# Altium footprint library Drosel.PcbLib: 92 footprints (part 4 of 6)
Each footprint in its own frame and in the unit in brackets; x right, y up, seen from the top. Pads: shape width x height; smd on the part's side, far side on the other; paste and mask are expansions set on the pad; w line width, h text height; cw(c..) or ccw(c..) is an arc to the next point about the centre after c.
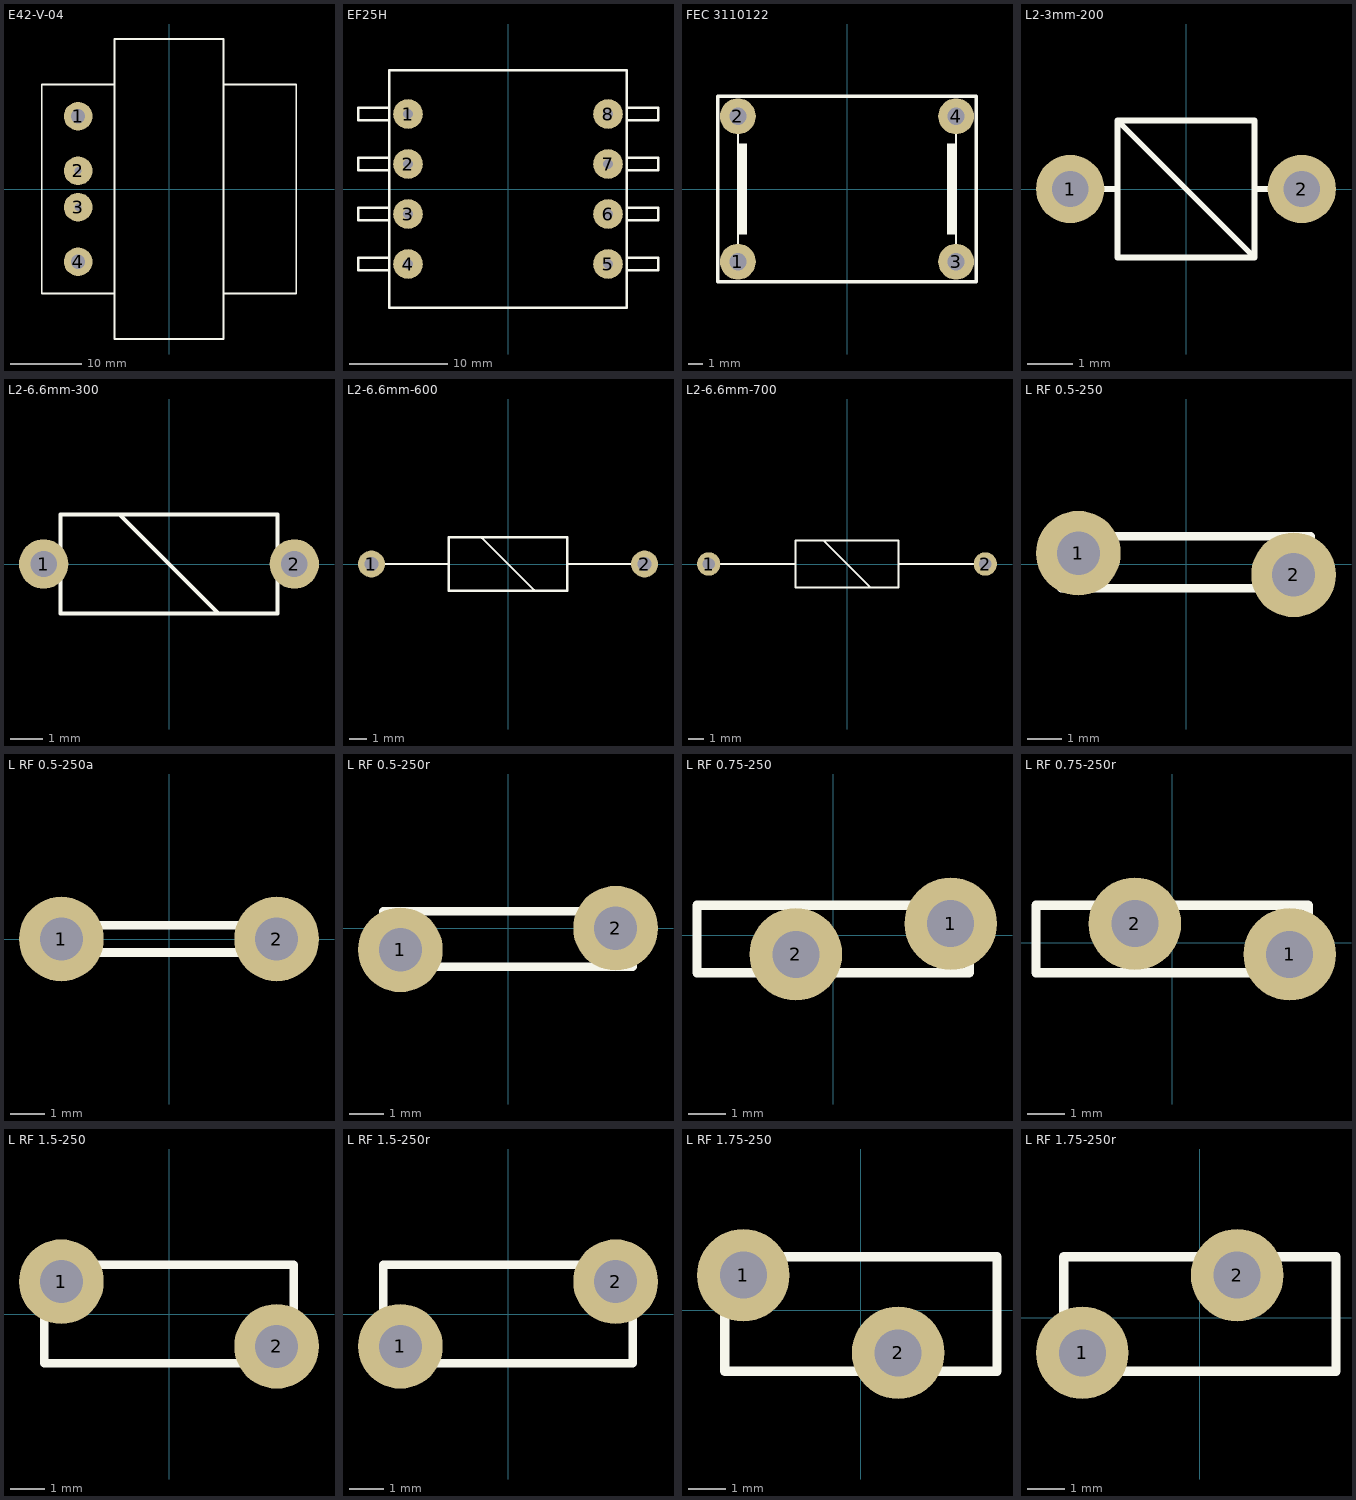
[diagram p3: the footprints below, top view; thin cyan lines are the x and y axes]

## E42-V-04 [mm]
pads (4):
  round 4 hole 2: 1(-12.7,10.16) 4(-12.7,-10.16)
  round 4 hole 1: 2(-12.7,2.54) 3(-12.7,-2.54)
Top Overlay:
  lines w0.254: -7.62,-14.605 -17.78,-14.605 -17.78,14.605 -7.62,14.605 ; 7.62,-14.605 17.78,-14.605 17.78,14.605 7.62,14.605 ; -7.62,-20.955 -7.62,20.955 7.62,20.955 7.62,-20.955 -7.62,-20.955
3D body: height 43, standoff 0, extent -7.62,-20.955 7.62,20.955
3D body: height 36, standoff 6, extent -17.78,-14.605 -7.62,14.605
3D body: height 36, standoff 6, extent 7.62,-14.605 17.78,14.605

## EF25H [mm]
pads (8):
  round 3 hole 1: 1(-10.16,7.62) 2(-10.16,2.54) 3(-10.16,-2.54) 4(-10.16,-7.62) 5(10.16,-7.62) 6(10.16,-2.54) 7(10.16,2.54) 8(10.16,7.62)
Top Overlay:
  lines w0.254: -12.065,-8.255 -15.24,-8.255 -15.24,-6.985 -12.065,-6.985 ; -12.065,-3.175 -15.24,-3.175 -15.24,-1.905 -12.065,-1.905 ; -12.065,1.905 -15.24,1.905 -15.24,3.175 -12.065,3.175 ; -12.065,6.985 -15.24,6.985 -15.24,8.255 -12.065,8.255 ; 12.065,-8.255 15.24,-8.255 15.24,-6.985 12.065,-6.985 ; 12.065,-3.175 15.24,-3.175 15.24,-1.905 12.065,-1.905 ; 12.065,1.905 15.24,1.905 15.24,3.175 12.065,3.175 ; 12.065,6.985 15.24,6.985 15.24,8.255 12.065,8.255 ; -12.065,-12.065 12.065,-12.065 12.065,12.065 -12.065,12.065 -12.065,-12.065
3D body: height 6.5, standoff 0, extent 7.62,-12.7 12.065,12.7
3D body: height 6.5, standoff 0, extent -12.065,-12.7 -7.62,12.7
3D body: height 14.5, standoff 6.5, extent -12.065,-12.7 12.065,12.7
3D body: height 6.5, standoff 0.5, extent -8.89,-8.89 8.89,8.89
3D body: height 19, standoff 14.5, extent -8.89,-8.89 8.89,8.89

## FEC 3110122 [mm]
pads (4):
  round 2.5 hole 1.2: 1(-7.62,-5.08) 2(-7.62,5.08) 3(7.62,-5.08) 4(7.62,5.08)
Top Overlay:
  region: 6.985,3.175 6.985,-3.175 7.62,-3.175 7.62,3.175
  region: -6.985,-3.175 -6.985,3.175 -7.62,3.175 -7.62,-3.175
  lines w0.127: -7.62,-5.08 -7.62,5.08 ; 7.62,-5.08 7.62,5.08
  lines w0.254: -9.017,-6.477 9.017,-6.477 9.017,6.477 -9.017,6.477 -9.017,-6.477

## L2-3mm-200 [mm]
pads (2):
  round 1.5 hole 0.8: 1(-2.54,0) 2(2.54,0)
Top Overlay:
  lines w0.127: -2.54,0 -1.524,0 ; -1.46,1.46 1.46,-1.46 ; 1.524,0 2.54,0 ; -1.5,-1.5 -1.5,1.5 1.5,1.5 1.5,-1.5 -1.5,-1.5
3D body: height 3, standoff -2, extent -2.865,-1.5 2.865,1.5

## L2-6.6mm-300 [mm]
pads (2):
  round 1.5 hole 0.8: 1(-3.81,0) 2(3.81,0)
Top Overlay:
  lines w0.127: -3.81,0 -3.302,0 ; -1.46,1.46 1.46,-1.46 ; 3.302,0 3.81,0 ; -3.3,-1.5 3.3,-1.5 3.3,1.5 -3.3,1.5 -3.3,-1.5
3D body: height 3, standoff -2, extent -4.135,-1.5 4.135,1.5

## L2-6.6mm-600 [mm]
pads (2):
  round 1.5 hole 0.8: 1(-7.62,0) 2(7.62,0)
Top Overlay:
  lines w0.127: -7.62,0 -3.302,0 ; -1.46,1.46 1.46,-1.46 ; 3.302,0 7.62,0 ; -3.3,-1.5 3.3,-1.5 3.3,1.5 -3.3,1.5 -3.3,-1.5
3D body: height 3, standoff -2, extent -7.945,-1.5 7.945,1.5

## L2-6.6mm-700 [mm]
pads (2):
  round 1.5 hole 0.8: 1(-8.89,0) 2(8.89,0)
Top Overlay:
  lines w0.127: -8.89,0 -3.302,0 ; -1.46,1.46 1.46,-1.46 ; 3.302,0 8.89,0 ; -3.3,-1.5 3.3,-1.5 3.3,1.5 -3.3,1.5 -3.3,-1.5
3D body: height 3, standoff -2, extent -9.215,-1.5 9.215,1.5

## L RF 0.5-250 [mm]
pads (2):
  round 2.5 hole 1.27: 1(-3.175,0.318) 2(3.175,-0.318)
Top Overlay:
  lines w0.254: -3.675,-0.717 -3.675,0.818 3.675,0.818 3.675,-0.717 -3.675,-0.717
3D body: height 7.66, standoff -5, extent -3.675,-0.817 3.675,0.818

## L RF 0.5-250a [mm]
pads (2):
  round 2.5 hole 1.27: 1(-3.175,0) 2(3.175,0)
Top Overlay:
  lines w0.254: -3.675,-0.4 3.675,-0.4 3.675,0.4 -3.675,0.4 -3.675,-0.4
3D body: height 7.15, standoff -2.5, extent -3.575,-0.4 3.575,0.4

## L RF 0.5-250r [mm]
pads (2):
  round 2.5 hole 1.27: 1(-3.175,-0.635) 2(3.175,0)
Top Overlay:
  lines w0.254: -3.675,-1.135 3.675,-1.135 3.675,0.5 -3.675,0.5 -3.675,-1.135
3D body: height 7.66, standoff -5, extent -3.675,-1.135 3.675,0.5

## L RF 0.75-250 [mm]
pads (2):
  round 2.5 hole 1.27: 1(3.175,0.318) 2(-1.003,-0.508)
Top Overlay:
  lines w0.254: -3.675,-1.007 3.675,-1.007 3.675,0.818 -3.675,0.818 -3.675,-1.007
3D body: height 7.67, standoff -4, extent -3.651,-1.007 3.675,0.818

## L RF 0.75-250r [mm]
pads (2):
  round 2.5 hole 1.27: 1(3.175,-0.318) 2(-1.003,0.508)
Top Overlay:
  lines w0.254: -3.675,-0.817 3.675,-0.817 3.675,1.007 -3.675,1.007 -3.675,-0.817
3D body: height 7.67, standoff -4, extent -3.651,-0.817 3.675,1.007

## L RF 1.5-250 [mm]
pads (2):
  round 2.5 hole 1.27: 1(-3.175,0.953) 2(3.175,-0.953)
Top Overlay:
  lines w0.254: -3.675,-1.452 -3.675,1.453 3.675,1.453 3.675,-1.452 -3.675,-1.452
3D body: height 7.66, standoff -5, extent -3.675,-1.452 3.675,1.453

## L RF 1.5-250r [mm]
pads (2):
  round 2.5 hole 1.27: 1(-3.175,-0.953) 2(3.175,0.953)
Top Overlay:
  lines w0.254: -3.675,-1.452 -3.675,1.453 3.675,1.453 3.675,-1.452 -3.675,-1.452
3D body: height 7.66, standoff -5, extent -3.675,-1.452 3.675,1.453

## L RF 1.75-250 [mm]
pads (2):
  round 2.5 hole 1.27: 1(-3.175,0.953) 2(1.003,-1.143)
Top Overlay:
  lines w0.254: -3.675,-1.642 -3.675,1.452 3.674,1.452 3.674,-1.642 -3.675,-1.642
3D body: height 7.67, standoff -3.47, extent -3.675,-1.642 3.672,1.452

## L RF 1.75-250r [mm]
pads (2):
  round 2.5 hole 1.27: 1(-3.175,-0.953) 2(1.003,1.143)
Top Overlay:
  lines w0.254: -3.675,-1.453 -3.675,1.642 3.674,1.642 3.674,-1.453 -3.675,-1.453
3D body: height 7.67, standoff -3.47, extent -3.675,-1.452 3.672,1.642